# EAGLE library part TB62737 (library badge)
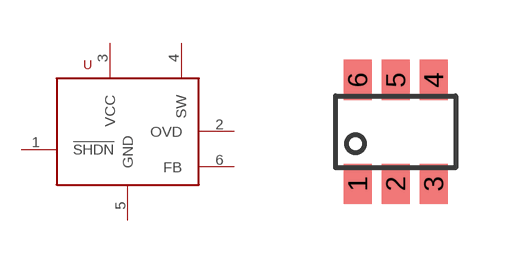
[diagram p4: symbol with the pads of SUPERSOT6; footprint SUPERSOT6]

Designator prefix -

## TB62737  [SUPERSOT6]
1  !SHDN
2  OVD
3  VCC
4  SW
5  GND
6  FB

## Footprint SUPERSOT6 (pad centres in mm)
smd 0.7 x 1: 1 -0.95,-1.3; 2 0,-1.3; 3 0.95,-1.3; 4 0.95,1.3; 5 0,1.3; 6 -0.95,1.3